# Altium footprint library DFN12.PcbLib: 1 footprints
Each footprint in its own frame and in the unit in brackets; x right, y up, seen from the top. Pads: shape width x height; smd on the part's side, far side on the other; paste and mask are expansions set on the pad; w line width, h text height; cw(c..) or ccw(c..) is an arc to the next point about the centre after c.
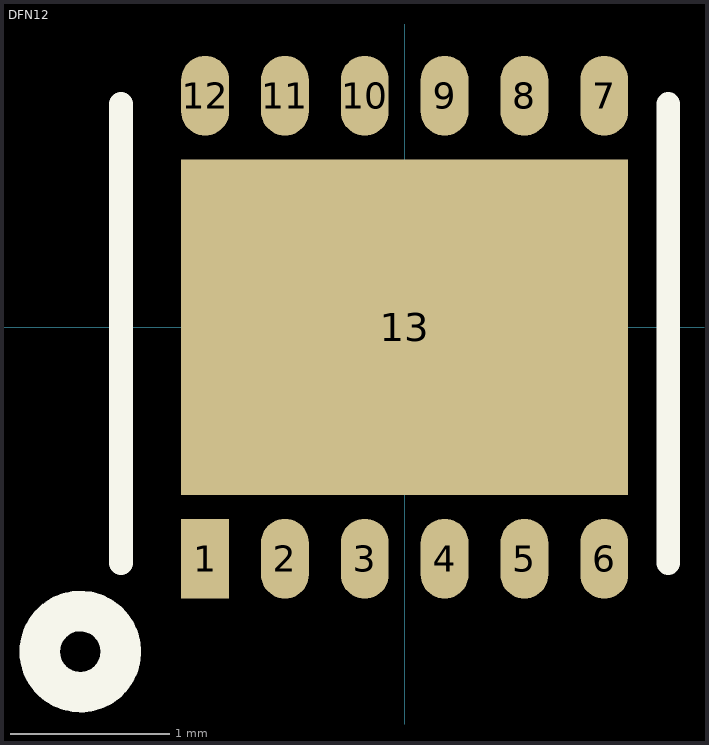
[diagram p0: the footprint, top view; thin cyan lines are the x and y axes]

## DFN12 [mm]
pads (13):
  rect 0.3x0.5 smd: 1(-1.25,-1.45)
  oval 0.3x0.5 smd: 2(-0.75,-1.45) 3(-0.25,-1.45) 4(0.25,-1.45) 5(0.75,-1.45) 6(1.25,-1.45) 7(1.25,1.45) 8(0.75,1.45) 9(0.25,1.45) 10(-0.25,1.45) 11(-0.75,1.45) 12(-1.25,1.45)
  rect 2.8x2.1 smd paste-10: 13(0,0)
Top Overlay:
  circle w0.254: c-2.032,-2.032 r0.254
  lines w0.15: -1.778,-1.476 -1.778,1.397 ; 1.651,-1.476 1.651,1.397
Top Paste:
  rectangle: -1.27,-0.889 1.27,0.889
3D body: height 0.75, standoff -0.05, extent -1.75,-1.505 1.75,1.505